# EAGLE library part ADV7123 (library Mine)
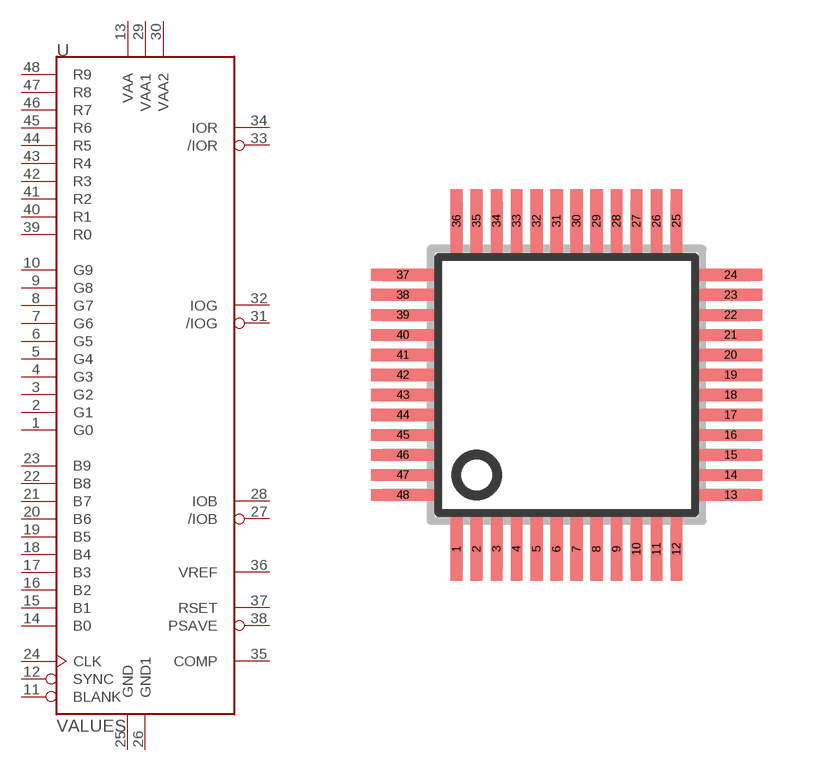
[diagram p39: symbol with the pads of SQFP-S-7X7-48; footprint SQFP-S-7X7-48]

Designator prefix -

## ADV7123  [SQFP-S-7X7-48]
1  G0  in
2  G1  in
3  G2  in
4  G3  in
5  G4  in
6  G5  in
7  G6  in
8  G7  in
9  G8  in
10  G9  in
11  BLANK  in
12  SYNC  in
13  VAA  sup
14  B0  in
15  B1  in
16  B2  in
17  B3  in
18  B4  in
19  B5  in
20  B6  in
21  B7  in
22  B8  in
23  B9  in
24  CLK  in
25  GND  sup
26  GND1  sup
27  /IOB  out
28  IOB  out
29  VAA1  sup
30  VAA2  sup
31  /IOG  out
32  IOG  out
33  /IOR  out
34  IOR  out
35  COMP
36  VREF
37  RSET  in
38  PSAVE  in
39  R0  in
40  R1  in
41  R2  in
42  R3  in
43  R4  in
44  R5  in
45  R6  in
46  R7  in
47  R8  in
48  R9  in

## Footprint SQFP-S-7X7-48 (pad centres in mm)
QFP48 shrink quad flat pack, square
smd 0.3 x 1.6: 1 -2.75,-4.1; 2 -2.25,-4.1; 3 -1.75,-4.1; 4 -1.25,-4.1; 5 -0.75,-4.1; 6 -0.25,-4.1; 7 0.25,-4.1; 8 0.75,-4.1; 9 1.25,-4.1; 10 1.75,-4.1; 11 2.25,-4.1; 12 2.75,-4.1; 25 2.75,4.1; 26 2.25,4.1; 27 1.75,4.1; 28 1.25,4.1; 29 0.75,4.1; 30 0.25,4.1; 31 -0.25,4.1; 32 -0.75,4.1; 33 -1.25,4.1; 34 -1.75,4.1; 35 -2.25,4.1; 36 -2.75,4.1
smd 1.6 x 0.3: 13 4.1,-2.75; 14 4.1,-2.25; 15 4.1,-1.75; 16 4.1,-1.25; 17 4.1,-0.75; 18 4.1,-0.25; 19 4.1,0.25; 20 4.1,0.75; 21 4.1,1.25; 22 4.1,1.75; 23 4.1,2.25; 24 4.1,2.75; 37 -4.1,2.75; 38 -4.1,2.25; 39 -4.1,1.75; 40 -4.1,1.25; 41 -4.1,0.75; 42 -4.1,0.25; 43 -4.1,-0.25; 44 -4.1,-0.75; 45 -4.1,-1.25; 46 -4.1,-1.75; 47 -4.1,-2.25; 48 -4.1,-2.75